# Altium footprint library pcb_lib.PcbLib: 17 footprints (part 2 of 2)
Each footprint in its own frame and in the unit in brackets; x right, y up, seen from the top. Pads: shape width x height; smd on the part's side, far side on the other; paste and mask are expansions set on the pad; w line width, h text height; cw(c..) or ccw(c..) is an arc to the next point about the centre after c.
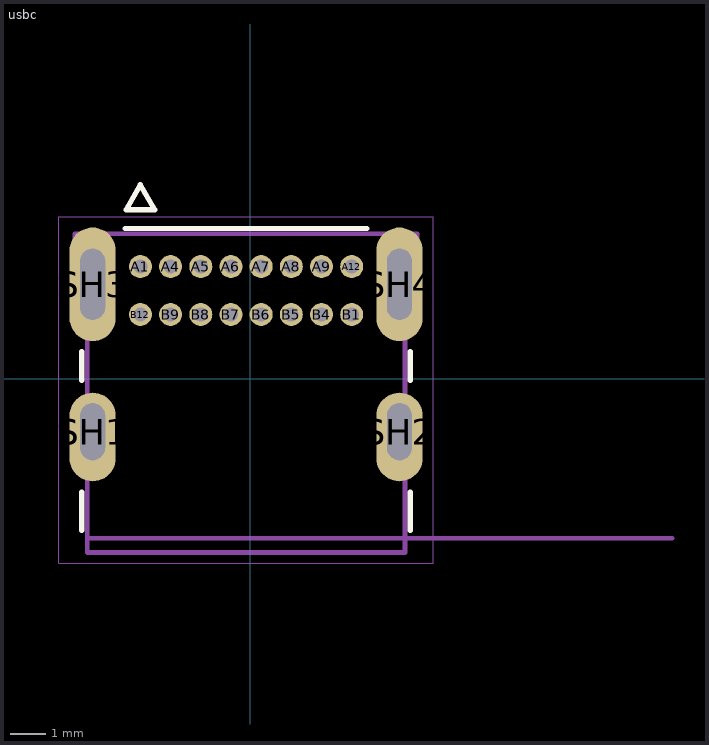
[diagram p1: the footprint, top view; thin cyan lines are the x and y axes]

## usbc [mm]
pads (20):
  round 0.648 hole 0.4 mask+0.064: A1(-3.092,3.164) A4(-2.242,3.164) A5(-1.392,3.164) A6(-0.542,3.164) A7(0.308,3.164) A8(1.158,3.164) A9(2.008,3.164) A12(2.858,3.164) B1(2.858,1.814) B4(2.008,1.814) B5(1.158,1.814) B6(0.308,1.814) B7(-0.542,1.814) B8(-1.392,1.814) B9(-2.242,1.814) B12(-3.092,1.814)
  oval 1.3x2.5 hole 0.7 slot 1.6 at 90 deg copper offset 0,-0.15 mask+0.064: SH1(-4.437,-1.486) SH2(4.203,-1.486)
  oval 1.3x3.2 hole 0.7 slot 2 at 90 deg mask+0.064: SH3(-4.437,2.664) SH4(4.203,2.664)
Top Overlay:
  lines w0.15: -4.742,-4.261 -4.742,-3.186 ; -4.742,-0.036 -4.742,0.764 ; -3.517,4.234 3.283,4.234 ; 4.508,-4.261 4.508,-3.186 ; 4.508,-0.036 4.508,0.764 ; -3.492,4.764 -3.092,5.464 -2.692,4.764 -3.492,4.764
Top Solder:
  drawing of 4 lines, arcs and shapes, not listed
Mechanical 13:
  lines w0.13: 11.883,-4.486 -4.592,-4.486 ; -4.592,-4.486 -4.592,-4.886 4.358,-4.886 4.358,1.684 4.703,1.684 4.703,4.084 -4.937,4.084 -4.937,1.684 -4.592,1.684 -4.592,-4.486 ; -3.492,4.764 -3.092,5.464 -2.692,4.764 -3.492,4.764
  text "PCB Edge" at 5.383,-4.236 h1
Mechanical 15:
  lines w0.01: -5.387,-5.186 5.153,-5.186 5.153,4.564 -5.387,4.564 -5.387,-5.186
3D body "2137160001.stp": height 3.17, standoff -1.19, extent -4.896,-4.917 4.744,4.053